# EAGLE library part 15PIN (library jst_eph)
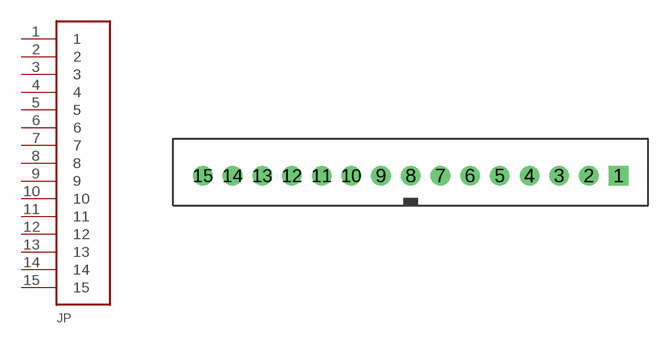
[diagram p9: symbol with the pads of B15B-PH-K-S; footprint B15B-PH-K-S]

Designator prefix JP

## 15PIN  [B15B-PH-K-S]
1  1
2  2
3  3
4  4
5  5
6  6
7  7
8  8
9  9
10  10
11  11
12  12
13  13
14  14
15  15

## Footprint B15B-PH-K-S (pad centres in mm)
drill 0.813 square: 1 14,0
drill 0.813: 2 12,0; 3 10,0; 4 8,0; 5 6,0; 6 4,0; 7 2,0; 8 0,0; 9 -2,0; 10 -4,0; 11 -6,0; 12 -8,0; 13 -10,0; 14 -12,0; 15 -14,0